# Altium integrated library Agilent LED Display 7-Segment, 2-Digit.IntLib: 43 symbols (part 1 of 2)
Pins are listed as number, name and electrical type; pins without a type are passive.

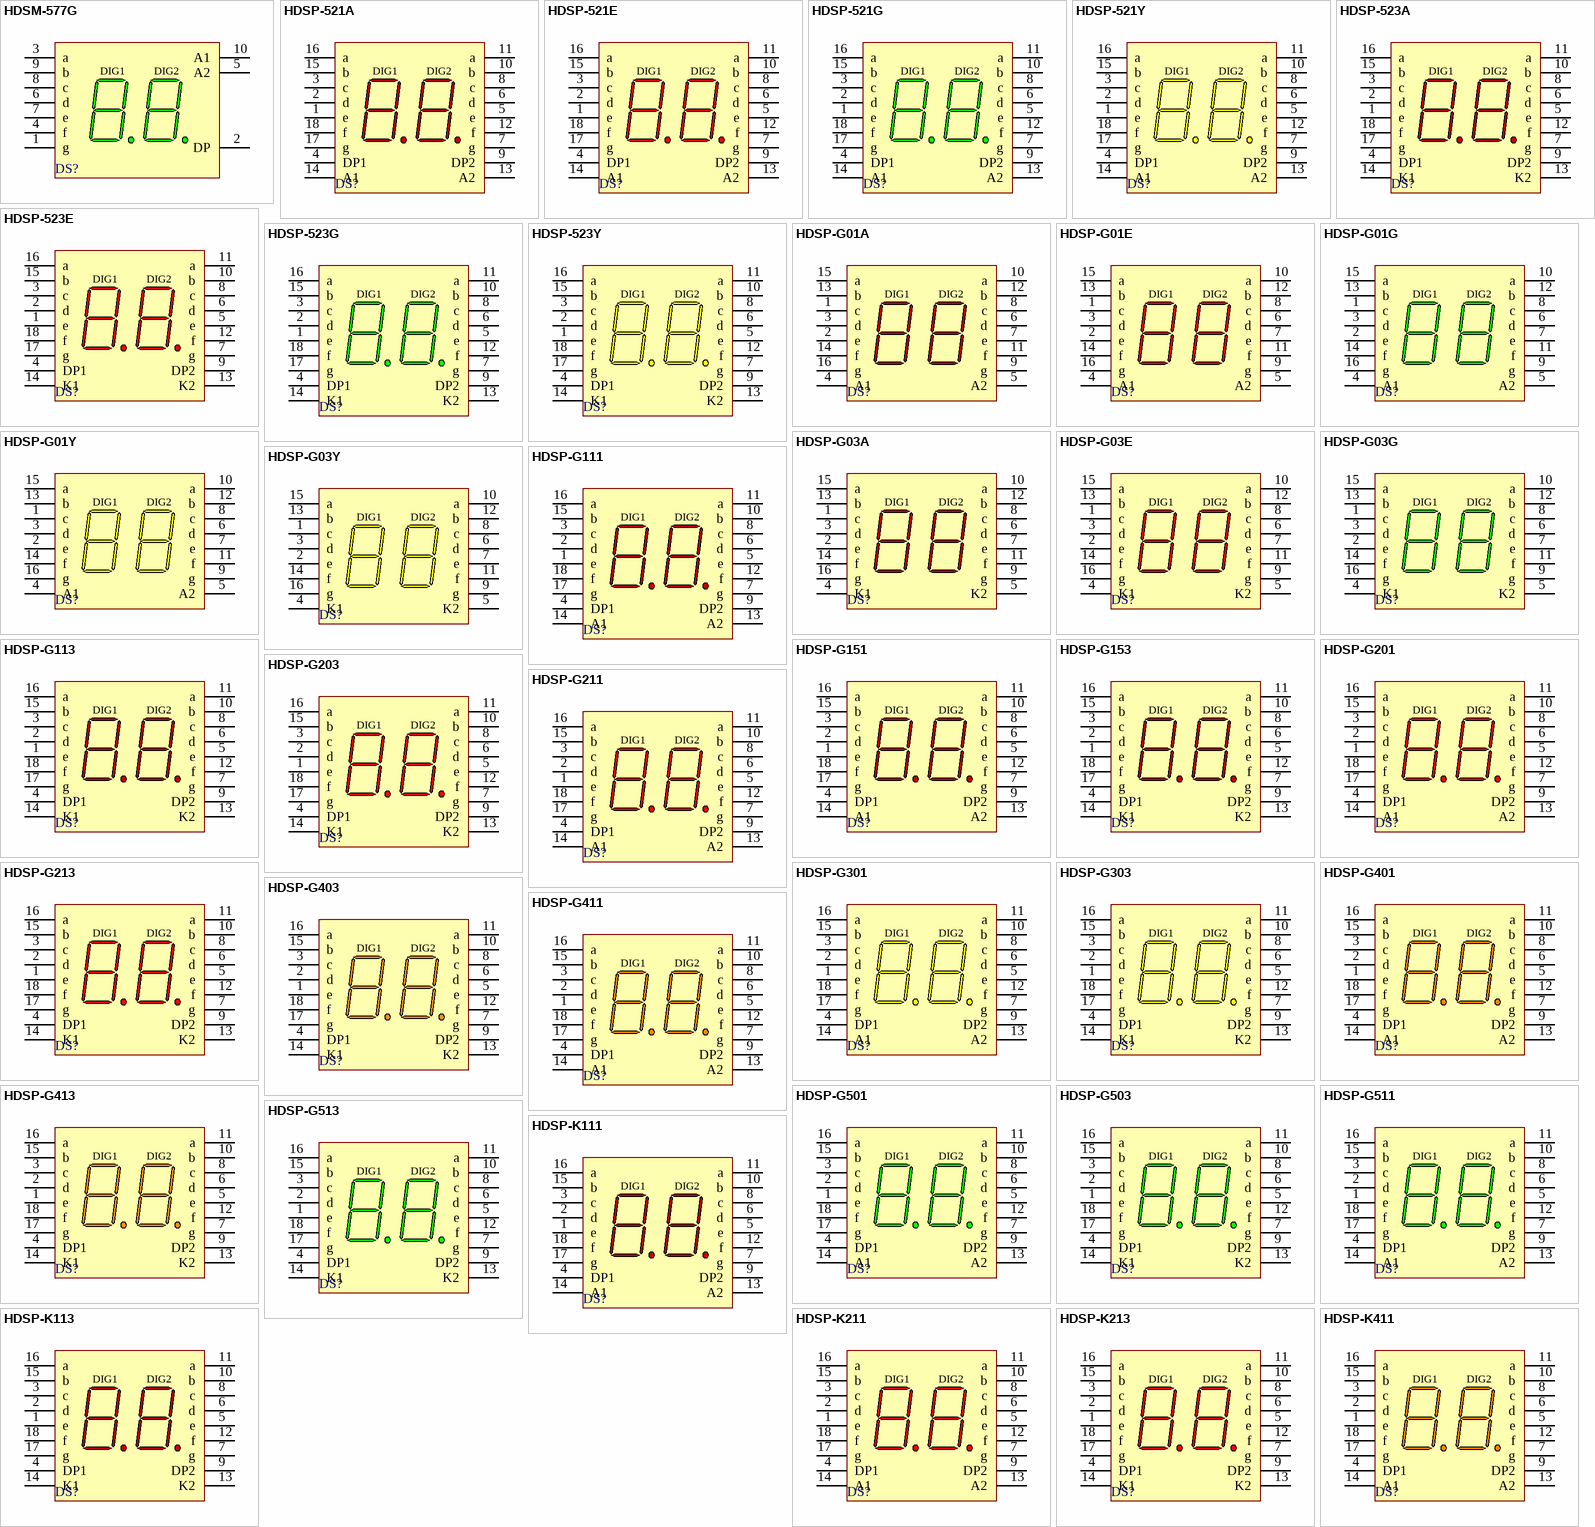
[diagram p0: symbols HDSM-577G to HDSP-K411]

## HDSM-577G
designator DS?
9.2 mm Green 7-Segment Display: 2-Digit, RH DP; LuminousIntensity: 1100 ucd (Minimum).; Published: 26-May-2004; LatestRevisionDate: 11-Oct-2004; LatestRevisionNote: Display outline superimposed on PCB Footprint.; DatasheetDocument: 14-Mar-2003; PackageDocument: 14-Mar-2003; PackageReference: HDSM-577; Publisher: Altium Limited; LED_Colour: Green; ComponentLink1Description: Manufacturer Link; ComponentLink1URL: http://www.agilent.com/
footprint HDSM-577 (LED, 7-Segment Display, 9.2 mm, Dual Digit; 10 Leads; Row Space 10.7 mm; Pitch 2.54 mm)
simulation model HDSM_577G (SUBCKT)
pins: 1 g "Digits (1&2) Cathode", 2 DP "Digits (1&2) Cathode", 3 a "Digits (1&2) Cathode", 4 f "Digits (1&2) Cathode", 5 A2 "Common Anode", 6 d "Digits (1&2) Cathode", 7 e "Digits (1&2) Cathode", 8 c "Digits (1&2) Cathode", 9 b "Digits (1&2) Cathode", 10 A1 "Common Anode"
text: DIG1; DIG2

## HDSP-521A
designator DS?
14.22 mm 2-Digit General Purpose AlGaAs Red 7-Segment Display: CA, RH DP; LuminousIntensity: 3201 ucd (Minimum).; Published: 26-May-2004; LatestRevisionDate: 11-Oct-2004; LatestRevisionNote: Display outline superimposed on PCB Footprint.; DatasheetDocument: 25-Jul-2001; PackageDocument: 09-Jan-2002; PackageReference: K-18; Publisher: Altium Limited; LED_Colour: AlGaAs Red; ComponentLink1Description: Manufacturer Link; ComponentLink1URL: http://www.agilent.com/; ComponentLink2Description: Datasheet; ComponentLink2URL: http://cp.literature.agilent.com/litweb/pdf/5988-2970EN.pdf
footprint K-18 (LED, 7-Segment Display, 14.22 mm, Dual Digit; 18 Leads; Row Space 15.24 mm; Pitch 2.54 mm)
simulation model HDSP_521A (SUBCKT)
pins: 1 e "Digit 1 e Cathode", 2 d "Digit 1 d Cathode", 3 c "Digit 1 c Cathode", 4 DP1 "Digit 1 DP Cathode", 5 e "Digit 2 e Cathode", 6 d "Digit 2 d Cathode", 7 g "Digit 2 g Cathode", 8 c "Digit 2 c Cathode", 9 DP2 "Digit 2 DP Cathode", 10 b "Digit 2 b Cathode", 11 a "Digit 2 a Cathode", 12 f "Digit 2 f Cathode", 13 A2 "Digit 2 Common Anode", 14 A1 "Digit 1 Common Anode", 15 b "Digit 1 b Cathode", 16 a "Digit 1 a Cathode", 17 g "Digit 1 g Cathode", 18 f "Digit 1 f Cathode"
text: DIG1; DIG2

## HDSP-521E
designator DS?
14.22 mm Gray Surface General Purpose HER 7-Segment Display: 2-Digit, CA, RH DP; LuminousIntensity: 2280 ucd (Minimum).; LED_Colour: High Efficiency Red (HER); Published: 26-May-2004; LatestRevisionDate: 11-Oct-2004; LatestRevisionNote: Display outline superimposed on PCB Footprint.; DatasheetDocument: 09-Jan-2002; PackageDocument: 09-Jan-2002; PackageReference: K-18; Publisher: Altium Limited; ComponentLink1Description: Manufacturer Link; ComponentLink1URL: http://www.agilent.com/; ComponentLink2Description: Datasheet; ComponentLink2URL: http://cp.literature.agilent.com/litweb/pdf/5988-5378EN.pdf
footprint K-18 (LED, 7-Segment Display, 14.22 mm, Dual Digit; 18 Leads; Row Space 15.24 mm; Pitch 2.54 mm)
simulation model HDSP_521E (SUBCKT)
pins: 1 e "Digit 1 e Cathode", 2 d "Digit 1 d Cathode", 3 c "Digit 1 c Cathode", 4 DP1 "Digit 1 DP Cathode", 5 e "Digit 2 e Cathode", 6 d "Digit 2 d Cathode", 7 g "Digit 2 g Cathode", 8 c "Digit 2 c Cathode", 9 DP2 "Digit 2 DP Cathode", 10 b "Digit 2 b Cathode", 11 a "Digit 2 a Cathode", 12 f "Digit 2 f Cathode", 13 A2 "Digit 2  Common Anode", 14 A1 "Digit 1 Common Anode", 15 b "Digit 1 b Cathode", 16 a "Digit 1 a Cathode", 17 g "Digit 1 g Cathode", 18 f "Digit 1 f Cathode"
text: DIG1; DIG2

## HDSP-521G
designator DS?
14.22 mm Gray Surface General Purpose Green 7-Segment Display: 2-Digit, CA, RH DP; LuminousIntensity: 2280 ucd (Minimum).; Published: 26-May-2004; LatestRevisionDate: 11-Oct-2004; LatestRevisionNote: Display outline superimposed on PCB Footprint.; DatasheetDocument: 09-Jan-2002; PackageDocument: 09-Jan-2002; PackageReference: K-18; Publisher: Altium Limited; LED_Colour: Green; ComponentLink1Description: Manufacturer Link; ComponentLink1URL: http://www.agilent.com/; ComponentLink2Description: Datasheet; ComponentLink2URL: http://cp.literature.agilent.com/litweb/pdf/5988-5378EN.pdf
footprint K-18 (LED, 7-Segment Display, 14.22 mm, Dual Digit; 18 Leads; Row Space 15.24 mm; Pitch 2.54 mm)
simulation model HDSP_521G (SUBCKT)
pins: 1 e "Digit 1 e Cathode", 2 d "Digit 1 d Cathode", 3 c "Digit 1 c Cathode", 4 DP1 "Digit 1 DP Cathode", 5 e "Digit 2 e Cathode", 6 d "Digit 2 d Cathode", 7 g "Digit 2 g Cathode", 8 c "Digit 2 c Cathode", 9 DP2 "Digit 2 DP Cathode", 10 b "Digit 2 b Cathode", 11 a "Digit 2 a Cathode", 12 f "Digit 2 f Cathode", 13 A2 "Digit 2  Common Anode", 14 A1 "Digit 1 Common Anode", 15 b "Digit 1 b Cathode", 16 a "Digit 1 a Cathode", 17 g "Digit 1 g Cathode", 18 f "Digit 1 f Cathode"
text: DIG1; DIG2

## HDSP-521Y
designator DS?
14.22 mm Gray Surface General Purpose Yellow 7-Segment Display: 2-Digit, CA, RH DP; LuminousIntensity: 1520 ucd (Minimum).; Published: 26-May-2004; LatestRevisionDate: 11-Oct-2004; LatestRevisionNote: Display outline superimposed on PCB Footprint.; DatasheetDocument: 09-Jan-2002; PackageDocument: 09-Jan-2002; PackageReference: K-18; Publisher: Altium Limited; LED_Colour: Yellow; ComponentLink1Description: Manufacturer Link; ComponentLink1URL: http://www.agilent.com/; ComponentLink2Description: Datasheet; ComponentLink2URL: http://cp.literature.agilent.com/litweb/pdf/5988-5378EN.pdf
footprint K-18 (LED, 7-Segment Display, 14.22 mm, Dual Digit; 18 Leads; Row Space 15.24 mm; Pitch 2.54 mm)
simulation model HDSP_521Y (SUBCKT)
pins: 1 e "Digit 1 e Cathode", 2 d "Digit 1 d Cathode", 3 c "Digit 1 c Cathode", 4 DP1 "Digit 1 DP Cathode", 5 e "Digit 2 e Cathode", 6 d "Digit 2 d Cathode", 7 g "Digit 2 g Cathode", 8 c "Digit 2 c Cathode", 9 DP2 "Digit 2 DP Cathode", 10 b "Digit 2 b Cathode", 11 a "Digit 2 a Cathode", 12 f "Digit 2 f Cathode", 13 A2 "Digit 2  Common Anode", 14 A1 "Digit 1 Common Anode", 15 b "Digit 1 b Cathode", 16 a "Digit 1 a Cathode", 17 g "Digit 1 g Cathode", 18 f "Digit 1 f Cathode"
text: DIG1; DIG2

## HDSP-523A
designator DS?
14.22 mm 2-Digit General Purpose AlGaAs Red 7-Segment Display: CC, RH DP; LuminousIntensity: 3201 ucd (Minimum).; Published: 26-May-2004; LatestRevisionDate: 11-Oct-2004; LatestRevisionNote: Display outline superimposed on PCB Footprint.; DatasheetDocument: 25-Jul-2001; PackageDocument: 09-Jan-2002; PackageReference: K-18; Publisher: Altium Limited; LED_Colour: AlGaAs Red; ComponentLink1Description: Manufacturer Link; ComponentLink1URL: http://www.agilent.com/; ComponentLink2Description: Datasheet; ComponentLink2URL: http://cp.literature.agilent.com/litweb/pdf/5988-2970EN.pdf
footprint K-18 (LED, 7-Segment Display, 14.22 mm, Dual Digit; 18 Leads; Row Space 15.24 mm; Pitch 2.54 mm)
simulation model HDSP_523A (SUBCKT)
pins: 1 e "Digit 1 e Anode", 2 d "Digit 1 d Anode", 3 c "Digit 1 c Anode", 4 DP1 "Digit 1 DP Anode", 5 e "Digit 2 e Anode", 6 d "Digit 2 d Anode", 7 g "Digit 2 g Anode", 8 c "Digit 2 c Anode", 9 DP2 "Digit 2 DP Anode", 10 b "Digit 2 b Anode", 11 a "Digit 2 a Anode", 12 f "Digit 2 f Anode", 13 K2 "Digit 2 Common Cathode", 14 K1 "Digit 1 Common Cathode", 15 b "Digit 1 b Anode", 16 a "Digit 1 a Anode", 17 g "Digit 1 g Anode", 18 f "Digit 1 f Anode"
text: DIG1; DIG2

## HDSP-523E
designator DS?
14.22 mm Gray Surface General Purpose HER 7-Segment Display: 2-Digit, CC, RH DP; LuminousIntensity: 2280 ucd (Minimum).; LED_Colour: High Efficiency Red (HER); Published: 26-May-2004; LatestRevisionDate: 11-Oct-2004; LatestRevisionNote: Display outline superimposed on PCB Footprint.; DatasheetDocument: 09-Jan-2002; PackageDocument: 09-Jan-2002; PackageReference: K-18; Publisher: Altium Limited; ComponentLink1Description: Manufacturer Link; ComponentLink1URL: http://www.agilent.com/; ComponentLink2Description: Datasheet; ComponentLink2URL: http://cp.literature.agilent.com/litweb/pdf/5988-5378EN.pdf
footprint K-18 (LED, 7-Segment Display, 14.22 mm, Dual Digit; 18 Leads; Row Space 15.24 mm; Pitch 2.54 mm)
simulation model HDSP_523E (SUBCKT)
pins: 1 e "Digit 1 e Anode", 2 d "Digit 1 d Anode", 3 c "Digit 1 c Anode", 4 DP1 "Digit 1 DP Anode", 5 e "Digit 2 e Anode", 6 d "Digit 2 d Anode", 7 g "Digit 2 g Anode", 8 c "Digit 2 c Anode", 9 DP2 "Digit 2 DP Anode", 10 b "Digit 2 b Anode", 11 a "Digit 2 a Anode", 12 f "Digit 2 f Anode", 13 K2 "Digit 2 Common Cathode", 14 K1 "Digit 1 Common Cathode", 15 b "Digit 1 b Anode", 16 a "Digit 1 a Anode", 17 g "Digit 1 g Anode", 18 f "Digit 1 f Anode"
text: DIG1; DIG2

## HDSP-523G
designator DS?
14.22 mm Gray Surface General Purpose Green 7-Segment Display: 2-Digit, CC, RH DP; LuminousIntensity: 2280 ucd (Minimum).; Published: 26-May-2004; LatestRevisionDate: 11-Oct-2004; LatestRevisionNote: Display outline superimposed on PCB Footprint.; DatasheetDocument: 09-Jan-2002; PackageDocument: 09-Jan-2002; PackageReference: K-18; Publisher: Altium Limited; LED_Colour: Green; ComponentLink1Description: Manufacturer Link; ComponentLink1URL: http://www.agilent.com/; ComponentLink2Description: Datasheet; ComponentLink2URL: http://cp.literature.agilent.com/litweb/pdf/5988-5378EN.pdf
footprint K-18 (LED, 7-Segment Display, 14.22 mm, Dual Digit; 18 Leads; Row Space 15.24 mm; Pitch 2.54 mm)
simulation model HDSP_523G (SUBCKT)
pins: 1 e "Digit 1 e Anode", 2 d "Digit 1 d Anode", 3 c "Digit 1 c Anode", 4 DP1 "Digit 1 DP Anode", 5 e "Digit 2 e Anode", 6 d "Digit 2 d Anode", 7 g "Digit 2 g Anode", 8 c "Digit 2 c Anode", 9 DP2 "Digit 2 DP Anode", 10 b "Digit 2 b Anode", 11 a "Digit 2 a Anode", 12 f "Digit 2 f Anode", 13 K2 "Digit 2 Common Cathode", 14 K1 "Digit 1 Common Cathode", 15 b "Digit 1 b Anode", 16 a "Digit 1 a Anode", 17 g "Digit 1 g Anode", 18 f "Digit 1 f Anode"
text: DIG1; DIG2

## HDSP-523Y
designator DS?
14.22 mm Gray Surface General Purpose Yellow 7-Segment Display: 2-Digit, CC, RH DP; LuminousIntensity: 1520 ucd (Minimum).; Published: 26-May-2004; LatestRevisionDate: 11-Oct-2004; LatestRevisionNote: Display outline superimposed on PCB Footprint.; DatasheetDocument: 09-Jan-2002; PackageDocument: 09-Jan-2002; PackageReference: K-18; Publisher: Altium Limited; LED_Colour: Yellow; ComponentLink1Description: Manufacturer Link; ComponentLink1URL: http://www.agilent.com/; ComponentLink2Description: Datasheet; ComponentLink2URL: http://cp.literature.agilent.com/litweb/pdf/5988-5378EN.pdf
footprint K-18 (LED, 7-Segment Display, 14.22 mm, Dual Digit; 18 Leads; Row Space 15.24 mm; Pitch 2.54 mm)
simulation model HDSP_523Y (SUBCKT)
pins: 1 e "Digit 1 e Anode", 2 d "Digit 1 d Anode", 3 c "Digit 1 c Anode", 4 DP1 "Digit 1 DP Anode", 5 e "Digit 2 e Anode", 6 d "Digit 2 d Anode", 7 g "Digit 2 g Anode", 8 c "Digit 2 c Anode", 9 DP2 "Digit 2 DP Anode", 10 b "Digit 2 b Anode", 11 a "Digit 2 a Anode", 12 f "Digit 2 f Anode", 13 K2 "Digit 2 Common Cathode", 14 K1 "Digit 1 Common Cathode", 15 b "Digit 1 b Anode", 16 a "Digit 1 a Anode", 17 g "Digit 1 g Anode", 18 f "Digit 1 f Anode"
text: DIG1; DIG2

## HDSP-G01A
designator DS?
10.16 mm 2-Digit General Purpose AlGaAs Red 7-Segment Display: CA, RH DP; LuminousIntensity: 3200 ucd (Minimum).; Published: 26-May-2004; LatestRevisionDate: 11-Oct-2004; LatestRevisionNote: Display outline superimposed on PCB Footprint.; DatasheetDocument: 20-Aug-2001; PackageDocument: 20-Aug-2001; PackageReference: G-16; Publisher: Altium Limited; LED_Colour: AlGaAs Red; ComponentLink1Description: Manufacturer Link; ComponentLink1URL: http://www.agilent.com/; ComponentLink2Description: Datasheet; ComponentLink2URL: http://cp.literature.agilent.com/litweb/pdf/5988-2972EN.pdf
footprint G-16 (LED, 7-Segment Display, 10.16 mm, Dual Digit; 16 Leads; Row Space 12.7 mm; Pitch 2.54 mm)
simulation model HDSP_G01A (SUBCKT)
pins: 1 c "Digit 1 c Cathode", 2 e "Digit 1 e Cathode", 3 d "Digit 1 d Cathode", 4 A1 "Digit 1 Common Anode", 5 A2 "Digit 2 Common Anode", 6 d "Digit 2 d Cathode", 7 e "Digit 2 e Cathode", 8 c "Digit 2 c Cathode", 9 g "Digit 2 g Cathode", 10 a "Digit 2 a Cathode", 11 f "Digit 2 f Cathode", 12 b "Digit 2 b Cathode", 13 b "Digit 1 b Cathode", 14 f "Digit 1 f Cathode", 15 a "Digit 1 a Cathode", 16 g "Digit 1 g Cathode"
text: DIG1; DIG2

## HDSP-G01E
designator DS?
10.16 mm 2-Digit General Purpose HER 7-Segment Display: CA, RH DP; LuminousIntensity: 1250 ucd (Minimum).; LED_Colour: High Efficiency Red (HER); Published: 26-May-2004; LatestRevisionDate: 11-Oct-2004; LatestRevisionNote: Display outline superimposed on PCB Footprint.; DatasheetDocument: 20-Aug-2001; PackageDocument: 20-Aug-2001; PackageReference: G-16; Publisher: Altium Limited; ComponentLink1Description: Manufacturer Link; ComponentLink1URL: http://www.agilent.com/; ComponentLink2Description: Datasheet; ComponentLink2URL: http://cp.literature.agilent.com/litweb/pdf/5988-2972EN.pdf
footprint G-16 (LED, 7-Segment Display, 10.16 mm, Dual Digit; 16 Leads; Row Space 12.7 mm; Pitch 2.54 mm)
simulation model HDSP_G01E (SUBCKT)
pins: 1 c "Digit 1 c Cathode", 2 e "Digit 1 e Cathode", 3 d "Digit 1 d Cathode", 4 A1 "Digit 1 Common Anode", 5 A2 "Digit 2 Common Anode", 6 d "Digit 2 d Cathode", 7 e "Digit 2 e Cathode", 8 c "Digit 2 c Cathode", 9 g "Digit 2 g Cathode", 10 a "Digit 2 a Cathode", 11 f "Digit 2 f Cathode", 12 b "Digit 2 b Cathode", 13 b "Digit 1 b Cathode", 14 f "Digit 1 f Cathode", 15 a "Digit 1 a Cathode", 16 g "Digit 1 g Cathode"
text: DIG1; DIG2

## HDSP-G01G
designator DS?
10.16 mm 2-Digit General Purpose Green 7-Segment Display: CA, RH DP; LuminousIntensity: 1250 ucd (Minimum).; Published: 26-May-2004; LatestRevisionDate: 11-Oct-2004; LatestRevisionNote: Display outline superimposed on PCB Footprint.; DatasheetDocument: 20-Aug-2001; PackageDocument: 20-Aug-2001; PackageReference: G-16; Publisher: Altium Limited; LED_Colour: Green; ComponentLink1Description: Manufacturer Link; ComponentLink1URL: http://www.agilent.com/; ComponentLink2Description: Datasheet; ComponentLink2URL: http://cp.literature.agilent.com/litweb/pdf/5988-2972EN.pdf
footprint G-16 (LED, 7-Segment Display, 10.16 mm, Dual Digit; 16 Leads; Row Space 12.7 mm; Pitch 2.54 mm)
simulation model HDSP_G01G (SUBCKT)
pins: 1 c "Digit 1 c Cathode", 2 e "Digit 1 e Cathode", 3 d "Digit 1 d Cathode", 4 A1 "Digit 1 Common Anode", 5 A2 "Digit 2 Common Anode", 6 d "Digit 2 d Cathode", 7 e "Digit 2 e Cathode", 8 c "Digit 2 c Cathode", 9 g "Digit 2 g Cathode", 10 a "Digit 2 a Cathode", 11 f "Digit 2 f Cathode", 12 b "Digit 2 b Cathode", 13 b "Digit 1 b Cathode", 14 f "Digit 1 f Cathode", 15 a "Digit 1 a Cathode", 16 g "Digit 1 g Cathode"
text: DIG1; DIG2

## HDSP-G01Y
designator DS?
10.16 mm 2-Digit General Purpose Yellow 7-Segment Display: CA, RH DP; LuminousIntensity: 800 ucd (Minimum).; Published: 26-May-2004; LatestRevisionDate: 11-Oct-2004; LatestRevisionNote: Display outline superimposed on PCB Footprint.; DatasheetDocument: 20-Aug-2001; PackageDocument: 20-Aug-2001; PackageReference: G-16; Publisher: Altium Limited; LED_Colour: Yellow; ComponentLink1Description: Manufacturer Link; ComponentLink1URL: http://www.agilent.com/; ComponentLink2Description: Datasheet; ComponentLink2URL: http://cp.literature.agilent.com/litweb/pdf/5988-2972EN.pdf
footprint G-16 (LED, 7-Segment Display, 10.16 mm, Dual Digit; 16 Leads; Row Space 12.7 mm; Pitch 2.54 mm)
simulation model HDSP_G01Y (SUBCKT)
pins: 1 c "Digit 1 c Cathode", 2 e "Digit 1 e Cathode", 3 d "Digit 1 d Cathode", 4 A1 "Digit 1 Common Anode", 5 A2 "Digit 2 Common Anode", 6 d "Digit 2 d Cathode", 7 e "Digit 2 e Cathode", 8 c "Digit 2 c Cathode", 9 g "Digit 2 g Cathode", 10 a "Digit 2 a Cathode", 11 f "Digit 2 f Cathode", 12 b "Digit 2 b Cathode", 13 b "Digit 1 b Cathode", 14 f "Digit 1 f Cathode", 15 a "Digit 1 a Cathode", 16 g "Digit 1 g Cathode"
text: DIG1; DIG2

## HDSP-G03A
designator DS?
10.16 mm 2-Digit General Purpose AlGaAs Red 7-Segment Display: CC, RH DP; LuminousIntensity: 3200 ucd (Minimum).; Published: 26-May-2004; LatestRevisionDate: 11-Oct-2004; LatestRevisionNote: Display outline superimposed on PCB Footprint.; DatasheetDocument: 20-Aug-2001; PackageDocument: 20-Aug-2001; PackageReference: G-16; Publisher: Altium Limited; LED_Colour: AlGaAs Red; ComponentLink1Description: Manufacturer Link; ComponentLink1URL: http://www.agilent.com/; ComponentLink2Description: Datasheet; ComponentLink2URL: http://cp.literature.agilent.com/litweb/pdf/5988-2972EN.pdf
footprint G-16 (LED, 7-Segment Display, 10.16 mm, Dual Digit; 16 Leads; Row Space 12.7 mm; Pitch 2.54 mm)
simulation model HDSP_G03A (SUBCKT)
pins: 1 c "Digit 1 c Anode", 2 e "Digit 1 e Anode", 3 d "Digit 1 d Anode", 4 K1 "Digit 1 Common Cathode", 5 K2 "Digit 2 Common Cathode", 6 d "Digit 2 d Anode", 7 e "Digit 2 e Anode", 8 c "Digit 2 c Anode", 9 g "Digit 2 g Anode", 10 a "Digit 2 a Anode", 11 f "Digit 2 f Anode", 12 b "Digit 2 b Anode", 13 b "Digit 1 b Anode", 14 f "Digit 1 f Anode", 15 a "Digit 1 a Anode", 16 g "Digit 1 g Anode"
text: DIG1; DIG2

## HDSP-G03E
designator DS?
10.16 mm 2-Digit General Purpose HER 7-Segment Display: CC, RH DP; LuminousIntensity: 1250 ucd (Minimum).; LED_Colour: High Efficiency Red (HER); Published: 26-May-2004; LatestRevisionDate: 11-Oct-2004; LatestRevisionNote: Display outline superimposed on PCB Footprint.; DatasheetDocument: 20-Aug-2001; PackageDocument: 20-Aug-2001; PackageReference: G-16; Publisher: Altium Limited; ComponentLink1Description: Manufacturer Link; ComponentLink1URL: http://www.agilent.com/; ComponentLink2Description: Datasheet; ComponentLink2URL: http://cp.literature.agilent.com/litweb/pdf/5988-2972EN.pdf
footprint G-16 (LED, 7-Segment Display, 10.16 mm, Dual Digit; 16 Leads; Row Space 12.7 mm; Pitch 2.54 mm)
simulation model HDSP_G03E (SUBCKT)
pins: 1 c "Digit 1 c Anode", 2 e "Digit 1 e Anode", 3 d "Digit 1 d Anode", 4 K1 "Digit 1 Common Cathode", 5 K2 "Digit 2 Common Cathode", 6 d "Digit 2 d Anode", 7 e "Digit 2 e Anode", 8 c "Digit 2 c Anode", 9 g "Digit 2 g Anode", 10 a "Digit 2 a Anode", 11 f "Digit 2 f Anode", 12 b "Digit 2 b Anode", 13 b "Digit 1 b Anode", 14 f "Digit 1 f Anode", 15 a "Digit 1 a Anode", 16 g "Digit 1 g Anode"
text: DIG1; DIG2

## HDSP-G03G
designator DS?
10.16 mm 2-Digit General Purpose Green 7-Segment Display: CC, RH DP; LuminousIntensity: 1250 ucd (Minimum).; Published: 26-May-2004; LatestRevisionDate: 11-Oct-2004; LatestRevisionNote: Display outline superimposed on PCB Footprint.; DatasheetDocument: 20-Aug-2001; PackageDocument: 20-Aug-2001; PackageReference: G-16; Publisher: Altium Limited; LED_Colour: Green; ComponentLink1Description: Manufacturer Link; ComponentLink1URL: http://www.agilent.com/; ComponentLink2Description: Datasheet; ComponentLink2URL: http://cp.literature.agilent.com/litweb/pdf/5988-2972EN.pdf
footprint G-16 (LED, 7-Segment Display, 10.16 mm, Dual Digit; 16 Leads; Row Space 12.7 mm; Pitch 2.54 mm)
simulation model HDSP_G03G (SUBCKT)
pins: 1 c "Digit 1 c Anode", 2 e "Digit 1 e Anode", 3 d "Digit 1 d Anode", 4 K1 "Digit 1 Common Cathode", 5 K2 "Digit 2 Common Cathode", 6 d "Digit 2 d Anode", 7 e "Digit 2 e Anode", 8 c "Digit 2 c Anode", 9 g "Digit 2 g Anode", 10 a "Digit 2 a Anode", 11 f "Digit 2 f Anode", 12 b "Digit 2 b Anode", 13 b "Digit 1 b Anode", 14 f "Digit 1 f Anode", 15 a "Digit 1 a Anode", 16 g "Digit 1 g Anode"
text: DIG1; DIG2

## HDSP-G03Y
designator DS?
10.16 mm 2-Digit General Purpose Yellow 7-Segment Display: CC, RH DP; LuminousIntensity: 800 ucd (Minimum).; Published: 26-May-2004; LatestRevisionDate: 11-Oct-2004; LatestRevisionNote: Display outline superimposed on PCB Footprint.; DatasheetDocument: 20-Aug-2001; PackageDocument: 20-Aug-2001; PackageReference: G-16; Publisher: Altium Limited; LED_Colour: Yellow; ComponentLink1Description: Manufacturer Link; ComponentLink1URL: http://www.agilent.com/; ComponentLink2Description: Datasheet; ComponentLink2URL: http://cp.literature.agilent.com/litweb/pdf/5988-2972EN.pdf
footprint G-16 (LED, 7-Segment Display, 10.16 mm, Dual Digit; 16 Leads; Row Space 12.7 mm; Pitch 2.54 mm)
simulation model HDSP_G03Y (SUBCKT)
pins: 1 c "Digit 1 c Anode", 2 e "Digit 1 e Anode", 3 d "Digit 1 d Anode", 4 K1 "Digit 1 Common Cathode", 5 K2 "Digit 2 Common Cathode", 6 d "Digit 2 d Anode", 7 e "Digit 2 e Anode", 8 c "Digit 2 c Anode", 9 g "Digit 2 g Anode", 10 a "Digit 2 a Anode", 11 f "Digit 2 f Anode", 12 b "Digit 2 b Anode", 13 b "Digit 1 b Anode", 14 f "Digit 1 f Anode", 15 a "Digit 1 a Anode", 16 g "Digit 1 g Anode"
text: DIG1; DIG2

## HDSP-G111
designator DS?
10.16 mm Black Surface AlGaAs Red 7-Segment Display: 2-Digit, CA, RH DP; LuminousIntensity: 330 ucd (Minimum).; Published: 26-May-2004; LatestRevisionDate: 11-Oct-2004; LatestRevisionNote: Display outline superimposed on PCB Footprint.; DatasheetDocument: 19-Feb-2002; PackageDocument: 07-Mar-2002; PackageReference: G-18; Publisher: Altium Limited; LED_Colour: AlGaAs Red; ComponentLink1Description: Manufacturer Link; ComponentLink1URL: http://www.agilent.com/; ComponentLink2Description: Datasheet; ComponentLink2URL: http://cp.literature.agilent.com/litweb/pdf/5989-2795EN.pdf
footprint G-18 (LED, 7-Segment Display, 10.16 mm, Dual Digit; 18 Leads; Row Space 15.24 mm; Pitch 2.54 mm)
simulation model HDSP_G111 (SUBCKT)
pins: 1 e "Digit 1 e Cathode", 2 d "Digit 1 d Cathode", 3 c "Digit 1 c Cathode", 4 DP1 "Digit 1 DP Cathode", 5 e "Digit 2 e Cathode", 6 d "Digit 2 d Cathode", 7 g "Digit 2 g Cathode", 8 c "Digit 2 c Cathode", 9 DP2 "Digit 2 DP Cathode", 10 b "Digit 2 b Cathode", 11 a "Digit 2 a Cathode", 12 f "Digit 2 f Cathode", 13 A2 "Digit 2 Common Anode", 14 A1 "Digit 1 Common Anode", 15 b "Digit 1 b Cathode", 16 a "Digit 1 a Cathode", 17 g "Digit 1 g Cathode", 18 f "Digit 1 f Cathode"
text: DIG1; DIG2

## HDSP-G113
designator DS?
10.16 mm Black Surface AlGaAs Red 7-Segment Display: 2-Digit, CC, RH DP; LuminousIntensity: 330 ucd (Minimum).; Published: 26-May-2004; LatestRevisionDate: 11-Oct-2004; LatestRevisionNote: Display outline superimposed on PCB Footprint.; DatasheetDocument: 19-Feb-2002; PackageDocument: 07-Mar-2002; PackageReference: G-18; Publisher: Altium Limited; LED_Colour: AlGaAs Red; ComponentLink1Description: Manufacturer Link; ComponentLink1URL: http://www.agilent.com/; ComponentLink2Description: Datasheet; ComponentLink2URL: http://cp.literature.agilent.com/litweb/pdf/5989-2795EN.pdf
footprint G-18 (LED, 7-Segment Display, 10.16 mm, Dual Digit; 18 Leads; Row Space 15.24 mm; Pitch 2.54 mm)
simulation model HDSP_G113 (SUBCKT)
pins: 1 e "Digit 1 e Anode", 2 d "Digit 1 d Anode", 3 c "Digit 1 c Anode", 4 DP1 "Digit 1 DP Anode", 5 e "Digit 2 e Anode", 6 d "Digit 2 d Anode", 7 g "Digit 2 g Anode", 8 c "Digit 2 c Anode", 9 DP2 "Digit 2 DP Anode", 10 b "Digit 2 b Anode", 11 a "Digit 2 a Anode", 12 f "Digit 2 f Anode", 13 K2 "Digit 2 Common Cathode", 14 K1 "Digit 1 Common Cathode", 15 b "Digit 1 b Anode", 16 a "Digit 1 a Anode", 17 g "Digit 1 g Anode", 18 f "Digit 1 f Anode"
text: DIG1; DIG2

## HDSP-G151
designator DS?
10.16 mm Gray Package AlGaAs Red 7-Segment Display: 2-Digit, CA, RH DP; LuminousIntensity: 7500 ucd (Minimum).; Published: 26-May-2004; LatestRevisionDate: 11-Oct-2004; LatestRevisionNote: Display outline superimposed on PCB Footprint.; DatasheetDocument: 26-Jul-2001; PackageDocument: 07-Mar-2002; PackageReference: G-18; Publisher: Altium Limited; LED_Colour: AlGaAs Red; ComponentLink1Description: Manufacturer Link; ComponentLink1URL: http://www.agilent.com/; ComponentLink2Description: Datasheet; ComponentLink2URL: http://cp.literature.agilent.com/litweb/pdf/5989-2346EN.pdf
footprint G-18 (LED, 7-Segment Display, 10.16 mm, Dual Digit; 18 Leads; Row Space 15.24 mm; Pitch 2.54 mm)
simulation model HDSP_G151 (SUBCKT)
pins: 1 e "Digit 1 e Cathode", 2 d "Digit 1 d Cathode", 3 c "Digit 1 c Cathode", 4 DP1 "Digit 1 DP Cathode", 5 e "Digit 2 e Cathode", 6 d "Digit 2 d Cathode", 7 g "Digit 2 g Cathode", 8 c "Digit 2 c Cathode", 9 DP2 "Digit 2 DP Cathode", 10 b "Digit 2 b Cathode", 11 a "Digit 2 a Cathode", 12 f "Digit 2 f Cathode", 13 A2 "Digit 2 Common Anode", 14 A1 "Digit 1 Common Anode", 15 b "Digit 1 b Cathode", 16 a "Digit 1 a Cathode", 17 g "Digit 1 g Cathode", 18 f "Digit 1 f Cathode"
text: DIG1; DIG2

## HDSP-G153
designator DS?
10.16 mm Gray Package AlGaAs Red 7-Segment Display: 2-Digit, CC, RH DP; LuminousIntensity: 7500 ucd (Minimum).; Published: 26-May-2004; LatestRevisionDate: 11-Oct-2004; LatestRevisionNote: Display outline superimposed on PCB Footprint.; DatasheetDocument: 26-Jul-2001; PackageDocument: 07-Mar-2002; PackageReference: G-18; Publisher: Altium Limited; LED_Colour: AlGaAs Red; ComponentLink1Description: Manufacturer Link; ComponentLink1URL: http://www.agilent.com/; ComponentLink2Description: Datasheet; ComponentLink2URL: http://cp.literature.agilent.com/litweb/pdf/5989-2346EN.pdf
footprint G-18 (LED, 7-Segment Display, 10.16 mm, Dual Digit; 18 Leads; Row Space 15.24 mm; Pitch 2.54 mm)
simulation model HDSP_G153 (SUBCKT)
pins: 1 e "Digit 1 e Anode", 2 d "Digit 1 d Anode", 3 c "Digit 1 c Anode", 4 DP1 "Digit 1 DP Anode", 5 e "Digit 2 e Anode", 6 d "Digit 2 d Anode", 7 g "Digit 2 g Anode", 8 c "Digit 2 c Anode", 9 DP2 "Digit 2 DP Anode", 10 b "Digit 2 b Anode", 11 a "Digit 2 a Anode", 12 f "Digit 2 f Anode", 13 K2 "Digit 2 Common Cathode", 14 K1 "Digit 1 Common Cathode", 15 b "Digit 1 b Anode", 16 a "Digit 1 a Anode", 17 g "Digit 1 g Anode", 18 f "Digit 1 f Anode"
text: DIG1; DIG2

## HDSP-G201
designator DS?
10.16 mm Gray Package HER 7-Segment Display: 2-Digit, CA, RH DP; LuminousIntensity: 420 ucd (Minimum).; LED_Colour: High Efficiency Red (HER); Published: 26-May-2004; LatestRevisionDate: 11-Oct-2004; LatestRevisionNote: Display outline superimposed on PCB Footprint.; DatasheetDocument: 26-Jul-2001; PackageDocument: 07-Mar-2002; PackageReference: G-18; Publisher: Altium Limited; ComponentLink1Description: Manufacturer Link; ComponentLink1URL: http://www.agilent.com/; ComponentLink2Description: Datasheet; ComponentLink2URL: http://cp.literature.agilent.com/litweb/pdf/5989-2346EN.pdf
footprint G-18 (LED, 7-Segment Display, 10.16 mm, Dual Digit; 18 Leads; Row Space 15.24 mm; Pitch 2.54 mm)
simulation model HDSP_G201 (SUBCKT)
pins: 1 e "Digit 1 e Cathode", 2 d "Digit 1 d Cathode", 3 c "Digit 1 c Cathode", 4 DP1 "Digit 1 DP Cathode", 5 e "Digit 2 e Cathode", 6 d "Digit 2 d Cathode", 7 g "Digit 2 g Cathode", 8 c "Digit 2 c Cathode", 9 DP2 "Digit 2 DP Cathode", 10 b "Digit 2 b Cathode", 11 a "Digit 2 a Cathode", 12 f "Digit 2 f Cathode", 13 A2 "Digit 2 Common Anode", 14 A1 "Digit 1 Common Anode", 15 b "Digit 1 b Cathode", 16 a "Digit 1 a Cathode", 17 g "Digit 1 g Cathode", 18 f "Digit 1 f Cathode"
text: DIG1; DIG2

## HDSP-G203
designator DS?
10.16 mm Gray Package HER 7-Segment Display: 2-Digit, CC, RH DP; LuminousIntensity: 420 ucd (Minimum).; LED_Colour: High Efficiency Red (HER); Published: 26-May-2004; LatestRevisionDate: 11-Oct-2004; LatestRevisionNote: Display outline superimposed on PCB Footprint.; DatasheetDocument: 26-Jul-2001; PackageDocument: 07-Mar-2002; PackageReference: G-18; Publisher: Altium Limited; ComponentLink1Description: Manufacturer Link; ComponentLink1URL: http://www.agilent.com/; ComponentLink2Description: Datasheet; ComponentLink2URL: http://cp.literature.agilent.com/litweb/pdf/5989-2346EN.pdf
footprint G-18 (LED, 7-Segment Display, 10.16 mm, Dual Digit; 18 Leads; Row Space 15.24 mm; Pitch 2.54 mm)
simulation model HDSP_G203 (SUBCKT)
pins: 1 e "Digit 1 e Anode", 2 d "Digit 1 d Anode", 3 c "Digit 1 c Anode", 4 DP1 "Digit 1 DP Anode", 5 e "Digit 2 e Anode", 6 d "Digit 2 d Anode", 7 g "Digit 2 g Anode", 8 c "Digit 2 c Anode", 9 DP2 "Digit 2 DP Anode", 10 b "Digit 2 b Anode", 11 a "Digit 2 a Anode", 12 f "Digit 2 f Anode", 13 K2 "Digit 2 Common Cathode", 14 K1 "Digit 1 Common Cathode", 15 b "Digit 1 b Anode", 16 a "Digit 1 a Anode", 17 g "Digit 1 g Anode", 18 f "Digit 1 f Anode"
text: DIG1; DIG2

## HDSP-G211
designator DS?
10.16 mm Black Surface HER 7-Segment Display: 2-Digit, CA, RH DP; LuminousIntensity: 420 ucd (Minimum).; LED_Colour: High Efficiency Red (HER); Published: 26-May-2004; LatestRevisionDate: 11-Oct-2004; LatestRevisionNote: Display outline superimposed on PCB Footprint.; DatasheetDocument: 19-Feb-2002; PackageDocument: 07-Mar-2002; PackageReference: G-18; Publisher: Altium Limited; ComponentLink1Description: Manufacturer Link; ComponentLink1URL: http://www.agilent.com/; ComponentLink2Description: Datasheet; ComponentLink2URL: http://cp.literature.agilent.com/litweb/pdf/5989-2795EN.pdf
footprint G-18 (LED, 7-Segment Display, 10.16 mm, Dual Digit; 18 Leads; Row Space 15.24 mm; Pitch 2.54 mm)
simulation model HDSP_G211 (SUBCKT)
pins: 1 e "Digit 1 e Cathode", 2 d "Digit 1 d Cathode", 3 c "Digit 1 c Cathode", 4 DP1 "Digit 1 DP Cathode", 5 e "Digit 2 e Cathode", 6 d "Digit 2 d Cathode", 7 g "Digit 2 g Cathode", 8 c "Digit 2 c Cathode", 9 DP2 "Digit 2 DP Cathode", 10 b "Digit 2 b Cathode", 11 a "Digit 2 a Cathode", 12 f "Digit 2 f Cathode", 13 A2 "Digit 2 Common Anode", 14 A1 "Digit 1 Common Anode", 15 b "Digit 1 b Cathode", 16 a "Digit 1 a Cathode", 17 g "Digit 1 g Cathode", 18 f "Digit 1 f Cathode"
text: DIG1; DIG2

## HDSP-G213
designator DS?
10.16 mm Black Surface HER 7-Segment Display: 2-Digit, CC, RH DP; LuminousIntensity: 420 ucd (Minimum).; LED_Colour: High Efficiency Red (HER); Published: 26-May-2004; LatestRevisionDate: 11-Oct-2004; LatestRevisionNote: Display outline superimposed on PCB Footprint.; DatasheetDocument: 19-Feb-2002; PackageDocument: 07-Mar-2002; PackageReference: G-18; Publisher: Altium Limited; ComponentLink1Description: Manufacturer Link; ComponentLink1URL: http://www.agilent.com/; ComponentLink2Description: Datasheet; ComponentLink2URL: http://cp.literature.agilent.com/litweb/pdf/5989-2795EN.pdf
footprint G-18 (LED, 7-Segment Display, 10.16 mm, Dual Digit; 18 Leads; Row Space 15.24 mm; Pitch 2.54 mm)
simulation model HDSP_G213 (SUBCKT)
pins: 1 e "Digit 1 e Anode", 2 d "Digit 1 d Anode", 3 c "Digit 1 c Anode", 4 DP1 "Digit 1 DP Anode", 5 e "Digit 2 e Anode", 6 d "Digit 2 d Anode", 7 g "Digit 2 g Anode", 8 c "Digit 2 c Anode", 9 DP2 "Digit 2 DP Anode", 10 b "Digit 2 b Anode", 11 a "Digit 2 a Anode", 12 f "Digit 2 f Anode", 13 K2 "Digit 2 Common Cathode", 14 K1 "Digit 1 Common Cathode", 15 b "Digit 1 b Anode", 16 a "Digit 1 a Anode", 17 g "Digit 1 g Anode", 18 f "Digit 1 f Anode"
text: DIG1; DIG2

## HDSP-G301
designator DS?
10.16 mm Gray Package Yellow 7-Segment Display: 2-Digit, CA, RH DP; LuminousIntensity: 290 ucd (Minimum).; Published: 26-May-2004; LatestRevisionDate: 11-Oct-2004; LatestRevisionNote: Display outline superimposed on PCB Footprint.; DatasheetDocument: 26-Jul-2001; PackageDocument: 07-Mar-2002; PackageReference: G-18; Publisher: Altium Limited; LED_Colour: Yellow; ComponentLink1Description: Manufacturer Link; ComponentLink1URL: http://www.agilent.com/; ComponentLink2Description: Datasheet; ComponentLink2URL: http://cp.literature.agilent.com/litweb/pdf/5989-2346EN.pdf
footprint G-18 (LED, 7-Segment Display, 10.16 mm, Dual Digit; 18 Leads; Row Space 15.24 mm; Pitch 2.54 mm)
simulation model HDSP_G301 (SUBCKT)
pins: 1 e "Digit 1 e Cathode", 2 d "Digit 1 d Cathode", 3 c "Digit 1 c Cathode", 4 DP1 "Digit 1 DP Cathode", 5 e "Digit 2 e Cathode", 6 d "Digit 2 d Cathode", 7 g "Digit 2 g Cathode", 8 c "Digit 2 c Cathode", 9 DP2 "Digit 2 DP Cathode", 10 b "Digit 2 b Cathode", 11 a "Digit 2 a Cathode", 12 f "Digit 2 f Cathode", 13 A2 "Digit 2 Common Anode", 14 A1 "Digit 1 Common Anode", 15 b "Digit 1 b Cathode", 16 a "Digit 1 a Cathode", 17 g "Digit 1 g Cathode", 18 f "Digit 1 f Cathode"
text: DIG1; DIG2

## HDSP-G303
designator DS?
10.16 mm Gray Package Yellow 7-Segment Display: 2-Digit, CC, RH DP; LuminousIntensity: 290 ucd (Minimum).; Published: 26-May-2004; LatestRevisionDate: 11-Oct-2004; LatestRevisionNote: Display outline superimposed on PCB Footprint.; DatasheetDocument: 26-Jul-2001; PackageDocument: 07-Mar-2002; PackageReference: G-18; Publisher: Altium Limited; LED_Colour: Yellow; ComponentLink1Description: Manufacturer Link; ComponentLink1URL: http://www.agilent.com/; ComponentLink2Description: Datasheet; ComponentLink2URL: http://cp.literature.agilent.com/litweb/pdf/5989-2346EN.pdf
footprint G-18 (LED, 7-Segment Display, 10.16 mm, Dual Digit; 18 Leads; Row Space 15.24 mm; Pitch 2.54 mm)
simulation model HDSP_G303 (SUBCKT)
pins: 1 e "Digit 1 e Anode", 2 d "Digit 1 d Anode", 3 c "Digit 1 c Anode", 4 DP1 "Digit 1 DP Anode", 5 e "Digit 2 e Anode", 6 d "Digit 2 d Anode", 7 g "Digit 2 g Anode", 8 c "Digit 2 c Anode", 9 DP2 "Digit 2 DP Anode", 10 b "Digit 2 b Anode", 11 a "Digit 2 a Anode", 12 f "Digit 2 f Anode", 13 K2 "Digit 2 Common Cathode", 14 K1 "Digit 1 Common Cathode", 15 b "Digit 1 b Anode", 16 a "Digit 1 a Anode", 17 g "Digit 1 g Anode", 18 f "Digit 1 f Anode"
text: DIG1; DIG2

## HDSP-G401
designator DS?
10.16 mm Gray Package Orange 7-Segment Display: 2-Digit, CA, RH DP; LuminousIntensity: 420 ucd (Minimum).; Published: 26-May-2004; LatestRevisionDate: 11-Oct-2004; LatestRevisionNote: Display outline superimposed on PCB Footprint.; DatasheetDocument: 26-Jul-2001; PackageDocument: 07-Mar-2002; PackageReference: G-18; Publisher: Altium Limited; LED_Colour: Orange; ComponentLink1Description: Manufacturer Link; ComponentLink1URL: http://www.agilent.com/; ComponentLink2Description: Datasheet; ComponentLink2URL: http://cp.literature.agilent.com/litweb/pdf/5989-2346EN.pdf
footprint G-18 (LED, 7-Segment Display, 10.16 mm, Dual Digit; 18 Leads; Row Space 15.24 mm; Pitch 2.54 mm)
simulation model HDSP_G401 (SUBCKT)
pins: 1 e "Digit 1 e Cathode", 2 d "Digit 1 d Cathode", 3 c "Digit 1 c Cathode", 4 DP1 "Digit 1 DP Cathode", 5 e "Digit 2 e Cathode", 6 d "Digit 2 d Cathode", 7 g "Digit 2 g Cathode", 8 c "Digit 2 c Cathode", 9 DP2 "Digit 2 DP Cathode", 10 b "Digit 2 b Cathode", 11 a "Digit 2 a Cathode", 12 f "Digit 2 f Cathode", 13 A2 "Digit 2 Common Anode", 14 A1 "Digit 1 Common Anode", 15 b "Digit 1 b Cathode", 16 a "Digit 1 a Cathode", 17 g "Digit 1 g Cathode", 18 f "Digit 1 f Cathode"
text: DIG1; DIG2

## HDSP-G403
designator DS?
10.16 mm Gray Package Orange 7-Segment Display: 2-Digit, CC, RH DP; LuminousIntensity: 290 ucd (Minimum).; Published: 26-May-2004; LatestRevisionDate: 11-Oct-2004; LatestRevisionNote: Display outline superimposed on PCB Footprint.; DatasheetDocument: 26-Jul-2001; PackageDocument: 07-Mar-2002; PackageReference: G-18; Publisher: Altium Limited; LED_Colour: Orange; ComponentLink1Description: Manufacturer Link; ComponentLink1URL: http://www.agilent.com/; ComponentLink2Description: Datasheet; ComponentLink2URL: http://cp.literature.agilent.com/litweb/pdf/5989-2346EN.pdf
footprint G-18 (LED, 7-Segment Display, 10.16 mm, Dual Digit; 18 Leads; Row Space 15.24 mm; Pitch 2.54 mm)
simulation model HDSP_G403 (SUBCKT)
pins: 1 e "Digit 1 e Anode", 2 d "Digit 1 d Anode", 3 c "Digit 1 c Anode", 4 DP1 "Digit 1 DP Anode", 5 e "Digit 2 e Anode", 6 d "Digit 2 d Anode", 7 g "Digit 2 g Anode", 8 c "Digit 2 c Anode", 9 DP2 "Digit 2 DP Anode", 10 b "Digit 2 b Anode", 11 a "Digit 2 a Anode", 12 f "Digit 2 f Anode", 13 K2 "Digit 2 Common Cathode", 14 K1 "Digit 1 Common Cathode", 15 b "Digit 1 b Anode", 16 a "Digit 1 a Anode", 17 g "Digit 1 g Anode", 18 f "Digit 1 f Anode"
text: DIG1; DIG2

## HDSP-G411
designator DS?
10.16 mm Black Surface Orange 7-Segment Display: 2-Digit, CA, RH DP; LuminousIntensity: 420 ucd (Minimum).; Published: 26-May-2004; LatestRevisionDate: 11-Oct-2004; LatestRevisionNote: Display outline superimposed on PCB Footprint.; DatasheetDocument: 19-Feb-2002; PackageDocument: 07-Mar-2002; PackageReference: G-18; Publisher: Altium Limited; LED_Colour: Orange; ComponentLink1Description: Manufacturer Link; ComponentLink1URL: http://www.agilent.com/; ComponentLink2Description: Datasheet; ComponentLink2URL: http://cp.literature.agilent.com/litweb/pdf/5989-2795EN.pdf
footprint G-18 (LED, 7-Segment Display, 10.16 mm, Dual Digit; 18 Leads; Row Space 15.24 mm; Pitch 2.54 mm)
simulation model HDSP_G211 (SUBCKT)
pins: 1 e "Digit 1 e Cathode", 2 d "Digit 1 d Cathode", 3 c "Digit 1 c Cathode", 4 DP1 "Digit 1 DP Cathode", 5 e "Digit 2 e Cathode", 6 d "Digit 2 d Cathode", 7 g "Digit 2 g Cathode", 8 c "Digit 2 c Cathode", 9 DP2 "Digit 2 DP Cathode", 10 b "Digit 2 b Cathode", 11 a "Digit 2 a Cathode", 12 f "Digit 2 f Cathode", 13 A2 "Digit 2 Common Anode", 14 A1 "Digit 1 Common Anode", 15 b "Digit 1 b Cathode", 16 a "Digit 1 a Cathode", 17 g "Digit 1 g Cathode", 18 f "Digit 1 f Cathode"
text: DIG1; DIG2

## HDSP-G413
designator DS?
10.16 mm Black Surface Orange 7-Segment Display: 2-Digit, CC, RH DP; LuminousIntensity: 420 ucd (Minimum).; Published: 26-May-2004; LatestRevisionDate: 11-Oct-2004; LatestRevisionNote: Display outline superimposed on PCB Footprint.; DatasheetDocument: 19-Feb-2002; PackageDocument: 07-Mar-2002; PackageReference: G-18; Publisher: Altium Limited; LED_Colour: Orange; ComponentLink1Description: Manufacturer Link; ComponentLink1URL: http://www.agilent.com/; ComponentLink2Description: Datasheet; ComponentLink2URL: http://cp.literature.agilent.com/litweb/pdf/5989-2795EN.pdf
footprint G-18 (LED, 7-Segment Display, 10.16 mm, Dual Digit; 18 Leads; Row Space 15.24 mm; Pitch 2.54 mm)
simulation model HDSP_G213 (SUBCKT)
pins: 1 e "Digit 1 e Anode", 2 d "Digit 1 d Anode", 3 c "Digit 1 c Anode", 4 DP1 "Digit 1 DP Anode", 5 e "Digit 2 e Anode", 6 d "Digit 2 d Anode", 7 g "Digit 2 g Anode", 8 c "Digit 2 c Anode", 9 DP2 "Digit 2 DP Anode", 10 b "Digit 2 b Anode", 11 a "Digit 2 a Anode", 12 f "Digit 2 f Anode", 13 K2 "Digit 2 Common Cathode", 14 K1 "Digit 1 Common Cathode", 15 b "Digit 1 b Anode", 16 a "Digit 1 a Anode", 17 g "Digit 1 g Anode", 18 f "Digit 1 f Anode"
text: DIG1; DIG2

## HDSP-G501
designator DS?
10.16 mm Gray Package Green 7-Segment Display: 2-Digit, CA, RH DP; LuminousIntensity: 1030 ucd (Minimum).; Published: 26-May-2004; LatestRevisionDate: 11-Oct-2004; LatestRevisionNote: Display outline superimposed on PCB Footprint.; DatasheetDocument: 26-Jul-2001; PackageDocument: 07-Mar-2002; PackageReference: G-18; Publisher: Altium Limited; LED_Colour: Green; ComponentLink1Description: Manufacturer Link; ComponentLink1URL: http://www.agilent.com/; ComponentLink2Description: Datasheet; ComponentLink2URL: http://cp.literature.agilent.com/litweb/pdf/5989-2346EN.pdf
footprint G-18 (LED, 7-Segment Display, 10.16 mm, Dual Digit; 18 Leads; Row Space 15.24 mm; Pitch 2.54 mm)
simulation model HDSP_G501 (SUBCKT)
pins: 1 e "Digit 1 e Cathode", 2 d "Digit 1 d Cathode", 3 c "Digit 1 c Cathode", 4 DP1 "Digit 1 DP Cathode", 5 e "Digit 2 e Cathode", 6 d "Digit 2 d Cathode", 7 g "Digit 2 g Cathode", 8 c "Digit 2 c Cathode", 9 DP2 "Digit 2 DP Cathode", 10 b "Digit 2 b Cathode", 11 a "Digit 2 a Cathode", 12 f "Digit 2 f Cathode", 13 A2 "Digit 2 Common Anode", 14 A1 "Digit 1 Common Anode", 15 b "Digit 1 b Cathode", 16 a "Digit 1 a Cathode", 17 g "Digit 1 g Cathode", 18 f "Digit 1 f Cathode"
text: DIG1; DIG2

## HDSP-G503
designator DS?
10.16 mm Gray Package Green 7-Segment Display: 2-Digit, CC, RH DP; LuminousIntensity: 1030 ucd (Minimum).; Published: 26-May-2004; LatestRevisionDate: 11-Oct-2004; LatestRevisionNote: Display outline superimposed on PCB Footprint.; DatasheetDocument: 26-Jul-2001; PackageDocument: 07-Mar-2002; PackageReference: G-18; Publisher: Altium Limited; LED_Colour: Green; ComponentLink1Description: Manufacturer Link; ComponentLink1URL: http://www.agilent.com/; ComponentLink2Description: Datasheet; ComponentLink2URL: http://cp.literature.agilent.com/litweb/pdf/5989-2346EN.pdf
footprint G-18 (LED, 7-Segment Display, 10.16 mm, Dual Digit; 18 Leads; Row Space 15.24 mm; Pitch 2.54 mm)
simulation model HDSP_G503 (SUBCKT)
pins: 1 e "Digit 1 e Anode", 2 d "Digit 1 d Anode", 3 c "Digit 1 c Anode", 4 DP1 "Digit 1 DP Anode", 5 e "Digit 2 e Anode", 6 d "Digit 2 d Anode", 7 g "Digit 2 g Anode", 8 c "Digit 2 c Anode", 9 DP2 "Digit 2 DP Anode", 10 b "Digit 2 b Anode", 11 a "Digit 2 a Anode", 12 f "Digit 2 f Anode", 13 K2 "Digit 2 Common Cathode", 14 K1 "Digit 1 Common Cathode", 15 b "Digit 1 b Anode", 16 a "Digit 1 a Anode", 17 g "Digit 1 g Anode", 18 f "Digit 1 f Anode"
text: DIG1; DIG2

## HDSP-G511
designator DS?
10.16 mm Black Surface Green 7-Segment Display: 2-Digit, CA, RH DP; LuminousIntensity: 1030 ucd (Minimum).; Published: 26-May-2004; LatestRevisionDate: 11-Oct-2004; LatestRevisionNote: Display outline superimposed on PCB Footprint.; DatasheetDocument: 19-Feb-2002; PackageDocument: 07-Mar-2002; PackageReference: G-18; Publisher: Altium Limited; LED_Colour: Green; ComponentLink1Description: Manufacturer Link; ComponentLink1URL: http://www.agilent.com/; ComponentLink2Description: Datasheet; ComponentLink2URL: http://cp.literature.agilent.com/litweb/pdf/5989-2795EN.pdf
footprint G-18 (LED, 7-Segment Display, 10.16 mm, Dual Digit; 18 Leads; Row Space 15.24 mm; Pitch 2.54 mm)
simulation model HDSP_G511 (SUBCKT)
pins: 1 e "Digit 1 e Cathode", 2 d "Digit 1 d Cathode", 3 c "Digit 1 c Cathode", 4 DP1 "Digit 1 DP Cathode", 5 e "Digit 2 e Cathode", 6 d "Digit 2 d Cathode", 7 g "Digit 2 g Cathode", 8 c "Digit 2 c Cathode", 9 DP2 "Digit 2 DP Cathode", 10 b "Digit 2 b Cathode", 11 a "Digit 2 a Cathode", 12 f "Digit 2 f Cathode", 13 A2 "Digit 2 Common Anode", 14 A1 "Digit 1 Common Anode", 15 b "Digit 1 b Cathode", 16 a "Digit 1 a Cathode", 17 g "Digit 1 g Cathode", 18 f "Digit 1 f Cathode"
text: DIG1; DIG2

## HDSP-G513
designator DS?
10.16 mm Black Surface Green 7-Segment Display: 2-Digit, CC, RH DP; LuminousIntensity: 1030 ucd (Minimum).; Published: 26-May-2004; LatestRevisionDate: 11-Oct-2004; LatestRevisionNote: Display outline superimposed on PCB Footprint.; DatasheetDocument: 19-Feb-2002; PackageDocument: 07-Mar-2002; PackageReference: G-18; Publisher: Altium Limited; LED_Colour: Green; ComponentLink1Description: Manufacturer Link; ComponentLink1URL: http://www.agilent.com/; ComponentLink2Description: Datasheet; ComponentLink2URL: http://cp.literature.agilent.com/litweb/pdf/5989-2795EN.pdf
footprint G-18 (LED, 7-Segment Display, 10.16 mm, Dual Digit; 18 Leads; Row Space 15.24 mm; Pitch 2.54 mm)
simulation model HDSP_G513 (SUBCKT)
pins: 1 e "Digit 1 e Anode", 2 d "Digit 1 d Anode", 3 c "Digit 1 c Anode", 4 DP1 "Digit 1 DP Anode", 5 e "Digit 2 e Anode", 6 d "Digit 2 d Anode", 7 g "Digit 2 g Anode", 8 c "Digit 2 c Anode", 9 DP2 "Digit 2 DP Anode", 10 b "Digit 2 b Anode", 11 a "Digit 2 a Anode", 12 f "Digit 2 f Anode", 13 K2 "Digit 2 Common Cathode", 14 K1 "Digit 1 Common Cathode", 15 b "Digit 1 b Anode", 16 a "Digit 1 a Anode", 17 g "Digit 1 g Anode", 18 f "Digit 1 f Anode"
text: DIG1; DIG2

## HDSP-K111
designator DS?
14.22 mm Black Surface AlGaAs Red 7-Segment Display: 2-Digit, CA, RH DP; LuminousIntensity: 400 ucd (Minimum).; Published: 26-May-2004; LatestRevisionDate: 11-Oct-2004; LatestRevisionNote: Display outline superimposed on PCB Footprint.; DatasheetDocument: 19-Feb-2002; PackageDocument: 09-Jan-2002; PackageReference: K; Publisher: Altium Limited; LED_Colour: AlGaAs Red; ComponentLink1Description: Manufacturer Link; ComponentLink1URL: http://www.agilent.com/; ComponentLink2Description: Datasheet; ComponentLink2URL: http://cp.literature.agilent.com/litweb/pdf/5989-2795EN.pdf
footprint K (LED, 7-Segment Display, 14.22 mm, Dual Digit; 18 Leads; Row Space 15.24 mm; Pitch 2.54 mm)
simulation model HDSP_K111 (SUBCKT)
pins: 1 e "Digit 1 e Cathode", 2 d "Digit 1 d Cathode", 3 c "Digit 1 c Cathode", 4 DP1 "Digit 1 DP Cathode", 5 e "Digit 2 e Cathode", 6 d "Digit 2 d Cathode", 7 g "Digit 2 g Cathode", 8 c "Digit 2 c Cathode", 9 DP2 "Digit 2 DP Cathode", 10 b "Digit 2 b Cathode", 11 a "Digit 2 a Cathode", 12 f "Digit 2 f Cathode", 13 A2 "Digit 2  Common Anode", 14 A1 "Digit 1 Common Anode", 15 b "Digit 1 b Cathode", 16 a "Digit 1 a Cathode", 17 g "Digit 1 g Cathode", 18 f "Digit 1 f Cathode"
text: DIG1; DIG2

## HDSP-K113
designator DS?
14.22 mm Black Surface AlGaAs Red 7-Segment Display: 2-Digit, CC, RH DP; LuminousIntensity: 400 ucd (Minimum).; Published: 26-May-2004; LatestRevisionDate: 11-Oct-2004; LatestRevisionNote: Display outline superimposed on PCB Footprint.; DatasheetDocument: 19-Feb-2002; PackageDocument: 09-Jan-2002; PackageReference: K; Publisher: Altium Limited; LED_Colour: AlGaAs Red; ComponentLink1Description: Manufacturer Link; ComponentLink1URL: http://www.agilent.com/; ComponentLink2Description: Datasheet; ComponentLink2URL: http://cp.literature.agilent.com/litweb/pdf/5989-2795EN.pdf
footprint K (LED, 7-Segment Display, 14.22 mm, Dual Digit; 18 Leads; Row Space 15.24 mm; Pitch 2.54 mm)
simulation model HDSP_K113 (SUBCKT)
pins: 1 e "Digit 1 e Anode", 2 d "Digit 1 d Anode", 3 c "Digit 1 c Anode", 4 DP1 "Digit 1 DP Anode", 5 e "Digit 2 e Anode", 6 d "Digit 2 d Anode", 7 g "Digit 2 g Anode", 8 c "Digit 2 c Anode", 9 DP2 "Digit 2 DP Anode", 10 b "Digit 2 b Anode", 11 a "Digit 2 a Anode", 12 f "Digit 2 f Anode", 13 K2 "Digit 2 Common Cathode", 14 K1 "Digit 1 Common Cathode", 15 b "Digit 1 b Anode", 16 a "Digit 1 a Anode", 17 g "Digit 1 g Anode", 18 f "Digit 1 f Anode"
text: DIG1; DIG2

## HDSP-K211
designator DS?
14.22 mm Black Surface HER 7-Segment Display: 2-Digit, CA, RH DP; LuminousIntensity: 900 ucd (Minimum).; LED_Colour: High Efficiency Red (HER); Published: 26-May-2004; LatestRevisionDate: 11-Oct-2004; LatestRevisionNote: Display outline superimposed on PCB Footprint.; DatasheetDocument: 19-Feb-2002; PackageDocument: 09-Jan-2002; PackageReference: K; Publisher: Altium Limited; ComponentLink1Description: Manufacturer Link; ComponentLink1URL: http://www.agilent.com/; ComponentLink2Description: Datasheet; ComponentLink2URL: http://cp.literature.agilent.com/litweb/pdf/5989-2795EN.pdf
footprint K (LED, 7-Segment Display, 14.22 mm, Dual Digit; 18 Leads; Row Space 15.24 mm; Pitch 2.54 mm)
simulation model HDSP_K211 (SUBCKT)
pins: 1 e "Digit 1 e Cathode", 2 d "Digit 1 d Cathode", 3 c "Digit 1 c Cathode", 4 DP1 "Digit 1 DP Cathode", 5 e "Digit 2 e Cathode", 6 d "Digit 2 d Cathode", 7 g "Digit 2 g Cathode", 8 c "Digit 2 c Cathode", 9 DP2 "Digit 2 DP Cathode", 10 b "Digit 2 b Cathode", 11 a "Digit 2 a Cathode", 12 f "Digit 2 f Cathode", 13 A2 "Digit 2  Common Anode", 14 A1 "Digit 1 Common Anode", 15 b "Digit 1 b Cathode", 16 a "Digit 1 a Cathode", 17 g "Digit 1 g Cathode", 18 f "Digit 1 f Cathode"
text: DIG1; DIG2

## HDSP-K213
designator DS?
14.22 mm Black Surface HER 7-Segment Display: 2-Digit, CC, RH DP; LuminousIntensity: 900 ucd (Minimum).; LED_Colour: High Efficiency Red (HER); Published: 26-May-2004; LatestRevisionDate: 11-Oct-2004; LatestRevisionNote: Display outline superimposed on PCB Footprint.; DatasheetDocument: 19-Feb-2002; PackageDocument: 09-Jan-2002; PackageReference: K; Publisher: Altium Limited; ComponentLink1Description: Manufacturer Link; ComponentLink1URL: http://www.agilent.com/; ComponentLink2Description: Datasheet; ComponentLink2URL: http://cp.literature.agilent.com/litweb/pdf/5989-2795EN.pdf
footprint K (LED, 7-Segment Display, 14.22 mm, Dual Digit; 18 Leads; Row Space 15.24 mm; Pitch 2.54 mm)
simulation model HDSP_K213 (SUBCKT)
pins: 1 e "Digit 1 e Anode", 2 d "Digit 1 d Anode", 3 c "Digit 1 c Anode", 4 DP1 "Digit 1 DP Anode", 5 e "Digit 2 e Anode", 6 d "Digit 2 d Anode", 7 g "Digit 2 g Anode", 8 c "Digit 2 c Anode", 9 DP2 "Digit 2 DP Anode", 10 b "Digit 2 b Anode", 11 a "Digit 2 a Anode", 12 f "Digit 2 f Anode", 13 K2 "Digit 2 Common Cathode", 14 K1 "Digit 1 Common Cathode", 15 b "Digit 1 b Anode", 16 a "Digit 1 a Anode", 17 g "Digit 1 g Anode", 18 f "Digit 1 f Anode"
text: DIG1; DIG2

## HDSP-K411
designator DS?
14.22 mm Black Surface Orange 7-Segment Display: 2-Digit, CA, RH DP; LuminousIntensity: 1190 ucd (Minimum).; Published: 26-May-2004; LatestRevisionDate: 11-Oct-2004; LatestRevisionNote: Display outline superimposed on PCB Footprint.; DatasheetDocument: 19-Feb-2002; PackageDocument: 09-Jan-2002; PackageReference: K; Publisher: Altium Limited; LED_Colour: Orange; ComponentLink1Description: Manufacturer Link; ComponentLink1URL: http://www.agilent.com/; ComponentLink2Description: Datasheet; ComponentLink2URL: http://cp.literature.agilent.com/litweb/pdf/5989-2795EN.pdf
footprint K (LED, 7-Segment Display, 14.22 mm, Dual Digit; 18 Leads; Row Space 15.24 mm; Pitch 2.54 mm)
simulation model HDSP_K211 (SUBCKT)
pins: 1 e "Digit 1 e Cathode", 2 d "Digit 1 d Cathode", 3 c "Digit 1 c Cathode", 4 DP1 "Digit 1 DP Cathode", 5 e "Digit 2 e Cathode", 6 d "Digit 2 d Cathode", 7 g "Digit 2 g Cathode", 8 c "Digit 2 c Cathode", 9 DP2 "Digit 2 DP Cathode", 10 b "Digit 2 b Cathode", 11 a "Digit 2 a Cathode", 12 f "Digit 2 f Cathode", 13 A2 "Digit 2  Common Anode", 14 A1 "Digit 1 Common Anode", 15 b "Digit 1 b Cathode", 16 a "Digit 1 a Cathode", 17 g "Digit 1 g Cathode", 18 f "Digit 1 f Cathode"
text: DIG1; DIG2

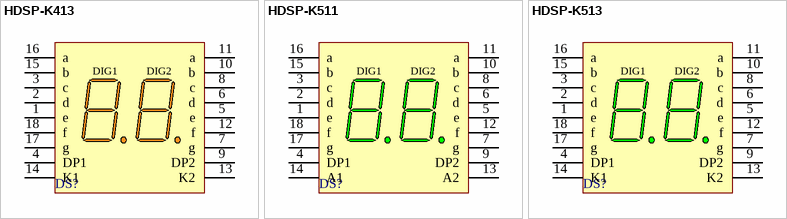
[diagram p1: symbols HDSP-K413 to HDSP-K513]

## HDSP-K413
designator DS?
14.22 mm Black Surface Orange 7-Segment Display: 2-Digit, CC, RH DP; LuminousIntensity: 1190 ucd (Minimum).; Published: 26-May-2004; LatestRevisionDate: 11-Oct-2004; LatestRevisionNote: Display outline superimposed on PCB Footprint.; DatasheetDocument: 19-Feb-2002; PackageDocument: 09-Jan-2002; PackageReference: K; Publisher: Altium Limited; LED_Colour: Orange; ComponentLink1Description: Manufacturer Link; ComponentLink1URL: http://www.agilent.com/; ComponentLink2Description: Datasheet; ComponentLink2URL: http://cp.literature.agilent.com/litweb/pdf/5989-2795EN.pdf
footprint K (LED, 7-Segment Display, 14.22 mm, Dual Digit; 18 Leads; Row Space 15.24 mm; Pitch 2.54 mm)
simulation model HDSP_K213 (SUBCKT)
pins: 1 e "Digit 1 e Anode", 2 d "Digit 1 d Anode", 3 c "Digit 1 c Anode", 4 DP1 "Digit 1 DP Anode", 5 e "Digit 2 e Anode", 6 d "Digit 2 d Anode", 7 g "Digit 2 g Anode", 8 c "Digit 2 c Anode", 9 DP2 "Digit 2 DP Anode", 10 b "Digit 2 b Anode", 11 a "Digit 2 a Anode", 12 f "Digit 2 f Anode", 13 K2 "Digit 2 Common Cathode", 14 K1 "Digit 1 Common Cathode", 15 b "Digit 1 b Anode", 16 a "Digit 1 a Anode", 17 g "Digit 1 g Anode", 18 f "Digit 1 f Anode"
text: DIG1; DIG2